# Altium footprint library DCDC.PcbLib: 4 footprints
Each footprint in its own frame and in the unit in brackets; x right, y up, seen from the top. Pads: shape width x height; smd on the part's side, far side on the other; paste and mask are expansions set on the pad; w line width, h text height; cw(c..) or ccw(c..) is an arc to the next point about the centre after c.
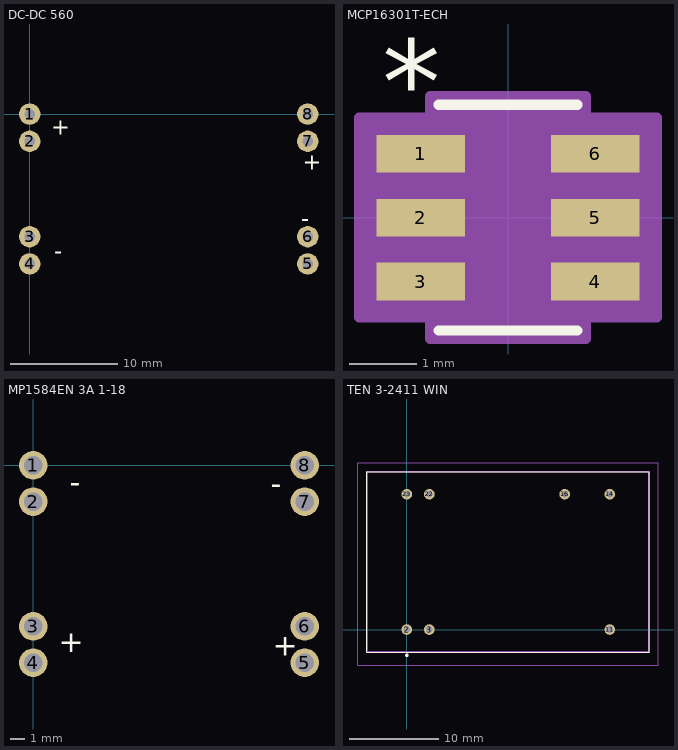
[diagram p0: the footprints below, top view; thin cyan lines are the x and y axes]

## DC-DC 560 [mm] "DC-DC 56"
pads (8):
  round 2 hole 1: 1(0,0) 2(0,-2.54) 3(0,-11.46) 4(0,-14) 5(26,-14) 6(26,-11.46) 7(26,-2.54) 8(26,0)
Top Overlay:
  text "+" at 2.032,-1.905 h1.52
  text "-" at 2.286,-13.589 h1.52
  text "+" at 25.527,-5.207 h1.52
  text "-" at 25.4,-10.541 h1.52
3D body "Плата Mini 560 DC-DC.STEP": height 5.7, standoff 0, extent -1.919,-16.108 28.081,2.392

## MCP16301T-ECH [mil]
pads (6):
  rect 52x22 smd paste+0 mask+0: 1(-51,37.4) 2(-51,0) 3(-51,-37.4) 4(51,-37.4) 5(51,0) 6(51,37.4)
Top Overlay:
  lines w6: -40.5,-66 40.5,-66 ; -40.5,66 40.5,66
  text "*" at -73.5,54.4 h50
Mechanical 13:
  lines w0: -12,61 ccw(c0,61) 12,61
  lines w1: -63,-47.4 -63,-27.4 -35.5,-27.4 -35.5,-47.4 -63,-47.4 ; -63,-10 -63,10 -35.5,10 -35.5,-10 -63,-10 ; -63,27.4 -63,47.4 -35.5,47.4 -35.5,27.4 -63,27.4 ; -35.5,-61 35.5,-61 35.5,61 -35.5,61 -35.5,-61 ; 35.5,-47.4 35.5,-27.4 63,-27.4 63,-47.4 35.5,-47.4 ; 35.5,-10 35.5,10 63,10 63,-10 35.5,-10 ; 35.5,27.4 35.5,47.4 63,47.4 63,27.4 35.5,27.4
  text "*" at -33,8 h50
Mechanical 15:
  region: -45.5,-58.4 -87,-58.4 -87,58.4 -45.5,58.4 -45.5,71 45.5,71 45.5,58.4 87,58.4 87,-58.4 45.5,-58.4 45.5,-71 -45.5,-71
  lines w6: -87,-58.4 -87,58.4 -45.5,58.4 -45.5,71 45.5,71 45.5,58.4 87,58.4 87,-58.4 45.5,-58.4 45.5,-71 -45.5,-71 -45.5,-58.4 -87,-58.4
3D body "SOT-23-6_MC_MCH.step": height 57.2, standoff 0, extent -62.99,-60.98 62.99,60.98

## MP1584EN 3A 1-18 [mm] "MP1584EN 3A 1-18"
pads (8):
  round 2 hole 1.3: 1(0,0) 2(0,-2.54) 3(0,-11.28) 4(0,-13.82) 5(19.016,-13.82) 6(19.016,-11.28) 7(19.016,-2.54) 8(19.016,0)
Top Overlay:
  text "+" at 16.764,-13.335 h1.52
  text "+" at 1.778,-13.081 h1.52
  text "-" at 16.637,-2.032 h1.52
  text "-" at 2.54,-1.905 h1.52

## TEN 3-2411 WIN [mm]
pads (7):
  round 1.2 hole 0.75: 2(0,0) 3(2.54,0) 11(22.86,0) 14(22.86,15.24) 16(17.78,15.24) 22(2.54,15.24) 23(0,15.24)
Top Overlay:
  lines w0.1: -4.5,-2.54 27.3,-2.54 27.3,17.77 -4.5,17.77 -4.5,-2.54
  lines w0.2: 0,-3 cw(c0,-2.9) 0,-2.8 cw(c0,-2.9) 0,-3
Mechanical 13:
  lines w0.2: -4.5,-2.53 27.3,-2.53 27.3,17.77 -4.5,17.77 -4.5,-2.53
Mechanical 15:
  lines w0.1: -5.5,-4 28.3,-4 28.3,18.77 -5.5,18.77 -5.5,-4
3D body "TEN_3-2411WIN.stp": height 10.78, standoff -3.92, extent -4.5,-2.49 27.3,17.81